# Altium footprint library shield_PcbLib.PcbLib: 25 footprints (part 1 of 2)
Each footprint in its own frame and in the unit in brackets; x right, y up, seen from the top. Pads: shape width x height; smd on the part's side, far side on the other; paste and mask are expansions set on the pad; w line width, h text height; cw(c..) or ccw(c..) is an arc to the next point about the centre after c.
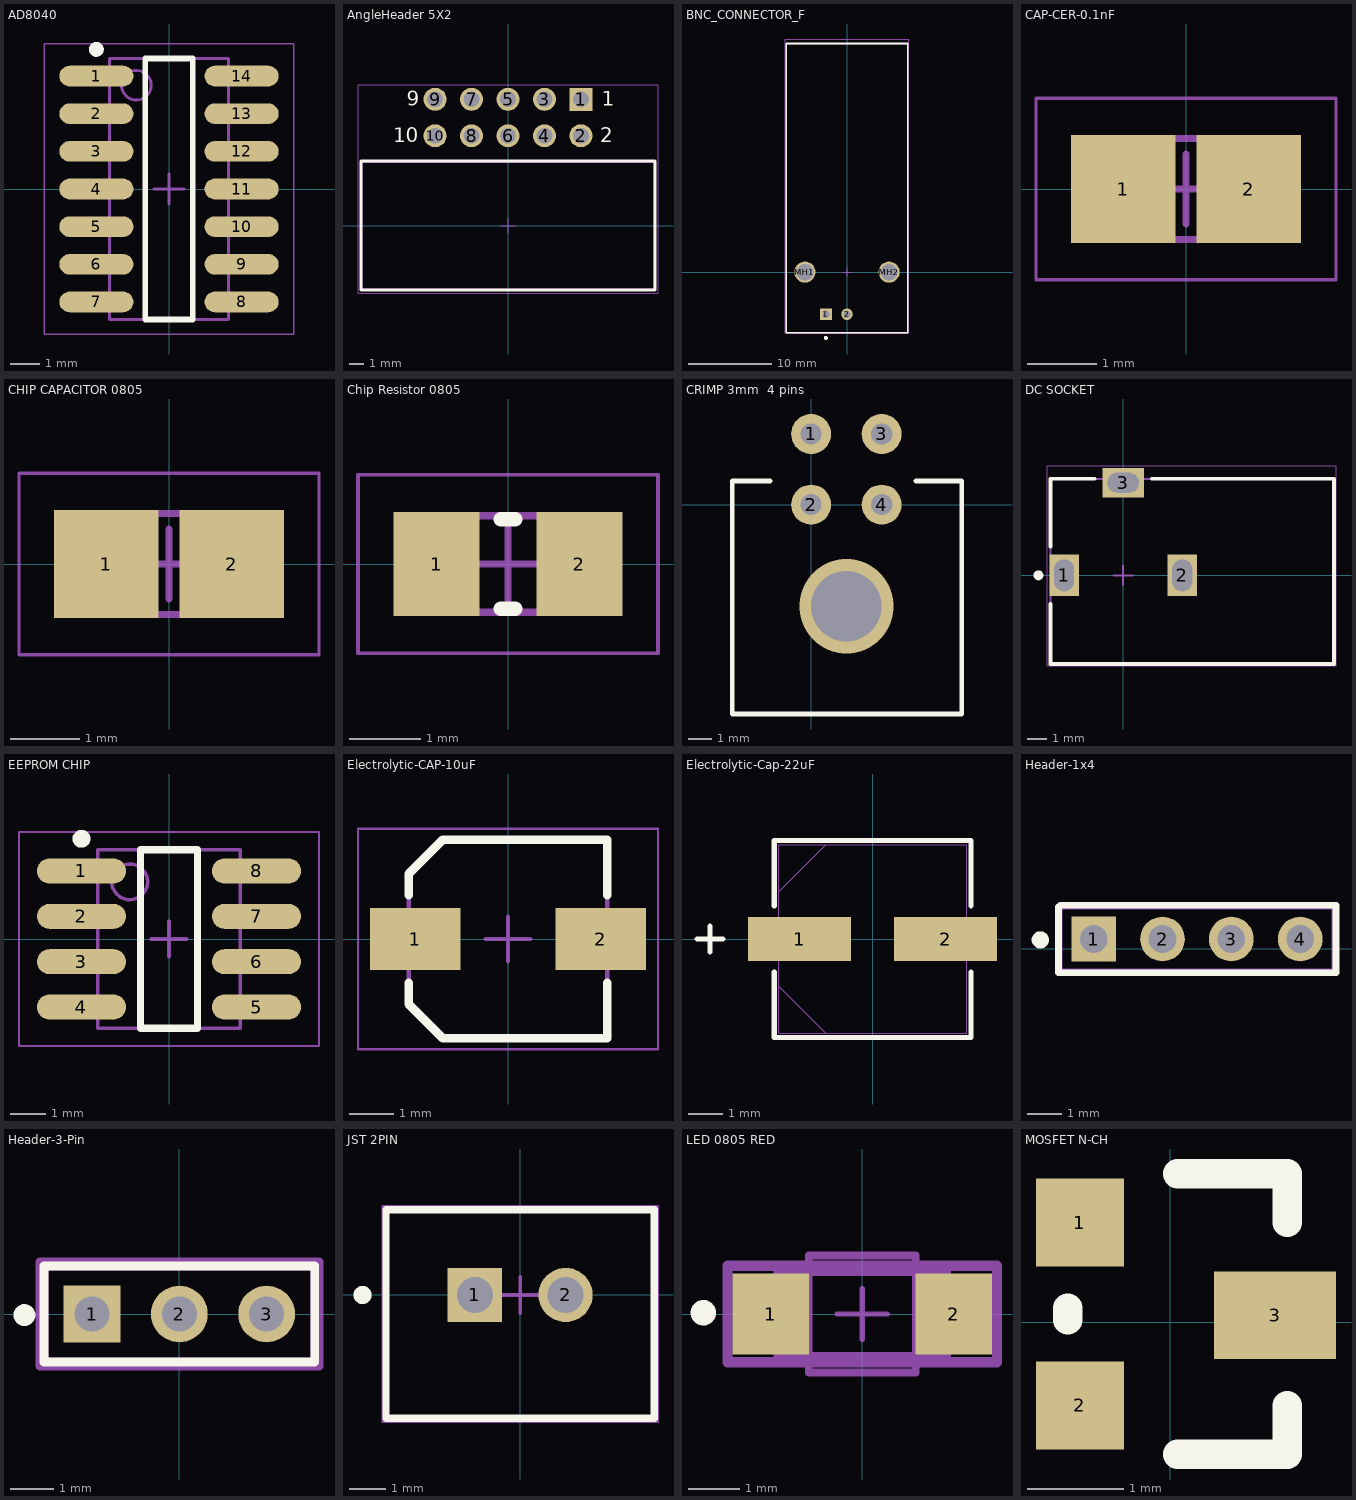
[diagram p0: the footprints below, top view; thin cyan lines are the x and y axes]

## AD8040 [mm] "SOIC, 14-Leads, Body 8.65x3.9mm, Pitch 1.27mm, IPC Low Density"
height 1.75
pads (14):
  oval 2.5x0.7 smd: 1(-2.45,3.81) 2(-2.45,2.54) 3(-2.45,1.27) 4(-2.45,0) 5(-2.45,-1.27) 6(-2.45,-2.54) 7(-2.45,-3.81) 8(2.45,-3.81) 9(2.45,-2.54) 10(2.45,-1.27) 11(2.45,0) 12(2.45,1.27) 13(2.45,2.54) 14(2.45,3.81)
Top Overlay:
  circle w0.25: c-2.45,4.71 r0.125
  lines w0.2: -0.8,-4.4 0.8,-4.4 0.8,4.4 -0.8,4.4 -0.8,-4.4
Mechanical 1:
  text "'.Designator'" at 0.254,0.421 h0.5
Mechanical 13:
  circle w0.1: c-1.1,3.5 r0.5
  lines w0.1: -2,-4.4 2,-4.4 2,4.4 -2,4.4 -2,-4.4
Mechanical 15:
  lines w0.05: -4.2,-4.9 4.2,-4.9 4.2,4.9 -4.2,4.9 -4.2,-4.9
  lines w0.1: -0.5,0 0.5,0 ; 0,-0.5 0,0.5
3D body: height 1.75, standoff 0.1, extent -2,-4.4 2,4.4

## AngleHeader 5X2 [mm] "10 pins, right angled, gold plating"
height 9.1
pads (10):
  rect 1.6x1.6 hole 1.1: 1(5.08,8.805)
  round 1.6 hole 1.1: 2(5.08,6.265) 3(2.54,8.805) 4(2.54,6.265) 5(0,8.805) 6(0,6.265) 7(-2.54,8.805) 8(-2.54,6.265) 9(-5.08,8.805) 10(-5.08,6.265)
Top Overlay:
  lines w0.2: -10.255,-4.5 -10.255,4.5 10.255,4.5 10.255,-4.5 -10.255,-4.5
  text "9" at -7.04,8.34 h1.02
  text "10" at -8,5.8 h1.02
  text "2" at 6.44,5.8 h1.02
  text "1" at 6.54,8.34 h1.02
Mechanical 13:
  lines w0.1: -10.18,-4.425 -10.18,4.425 10.18,4.425 10.18,-4.425 -10.18,-4.425
Mechanical 15:
  lines w0.05: -0.5,0 0.5,0 ; 0,-0.5 0,0.5 ; -10.455,-4.7 10.455,-4.7 10.455,9.805 -10.455,9.805 -10.455,-4.7
3D body "61201021721.stp": height 9.23, standoff -2.88, extent -10.18,-4.425 10.18,9.125

## BNC_CONNECTOR_F [mm] "SMD, 2-Leads, Body 34.9x14.7mm, Pitch 2.54mm"
height 15.8
pads (4):
  rect 1.4x1.4 hole 0.89: 1(-2.54,-5.08)
  round 1.4 hole 0.89: 2(0,-5.08)
  round 2.55 hole 2.01: MH1(-5.08,0) MH2(5.08,0)
Top Overlay:
  circle w0.25: c-2.54,-7.95 r0.125
  lines w0.2: -7.35,-7.3 -7.35,27.6 7.35,27.6 7.35,-7.3 -7.35,-7.3
Mechanical 13:
  lines w0.1: -7.35,-7.3 7.35,-7.3 7.35,27.6 -7.35,27.6 -7.35,-7.3
Mechanical 15:
  lines w0.05: -7.45,-7.4 7.45,-7.4 7.45,28.15 -7.45,28.15 -7.45,-7.4
  lines w0.1: -0.5,0 0.5,0 ; 0,-0.5 0,0.5
3D body "c-1-1337543-0-e-3d.stp": height 15.8, standoff -4.3, extent -7.35,-7.1 7.35,28.05

## CAP-CER-0.1nF [mm] "Chip Capacitor, 2-Leads, Body 2.00x1.25mm, IPC Low Density"
height 1.4
pads (2):
  rect 1.5x1.55 smd: 1(-0.9,0) 2(0.9,0)
Mechanical 5:
  text "'.Designator'" at 0.1,0.267 h0.5
Mechanical 13:
  lines w0.1: -1.1,-0.725 -1.1,0.725 1.1,0.725 1.1,-0.725 -1.1,-0.725
Mechanical 15:
  lines w0.05: -2.15,-1.3 -2.15,1.3 2.15,1.3 2.15,-1.3 -2.15,-1.3
  lines w0.1: -0.5,0 0.5,0 ; 0,-0.5 0,0.5
3D body: height 1.4, standoff 0, extent -0.6,-0.725 0.6,0.725
3D body: height 1.4, standoff 0, extent -1.1,-0.725 -0.6,0.725
3D body: height 1.4, standoff 0, extent 0.6,-0.725 1.1,0.725

## CHIP CAPACITOR 0805 [mm] "Chip Capacitor, 2-Leads, Body 2.00x1.25mm, IPC Low Density"
height 0.88
pads (2):
  rect 1.5x1.55 smd: 1(-0.9,0) 2(0.9,0)
Mechanical 5:
  text "'.Designator'" at 0.1,0.267 h0.5
Mechanical 13:
  lines w0.1: -1.1,-0.725 1.1,-0.725 1.1,0.725 -1.1,0.725 -1.1,-0.725
Mechanical 15:
  lines w0.05: -2.15,-1.3 2.15,-1.3 2.15,1.3 -2.15,1.3 -2.15,-1.3
  lines w0.1: -0.5,0 0.5,0 ; 0,-0.5 0,0.5
3D body: height 0.88, standoff 0, extent 0.6,-0.725 1.1,0.725
3D body: height 0.88, standoff 0, extent -1.1,-0.725 -0.6,0.725
3D body: height 0.88, standoff 0, extent -0.6,-0.725 0.6,0.725

## Chip Resistor 0805 [mm] "Chip Resistor, 2-Leads, Body 2.1x1.35mm, IPC Low Density"
height 0.6
pads (2):
  rect 1.2x1.45 smd: 1(-1,0) 2(1,0)
Top Overlay:
  lines w0.2: -0.1,-0.625 0.1,-0.625 ; -0.1,0.625 0.1,0.625
Mechanical 1:
  text "'.Designator'" at 0.1,0.267 h0.5
Mechanical 13:
  lines w0.1: -1.05,-0.675 -1.05,0.675 1.05,0.675 1.05,-0.675 -1.05,-0.675
Mechanical 15:
  lines w0.05: -2.1,-1.25 -2.1,1.25 2.1,1.25 2.1,-1.25 -2.1,-1.25
  lines w0.1: -0.5,0 0.5,0 ; 0,-0.5 0,0.5
3D body "RESC2012X06N.step": height 0.6, standoff 0, extent -1.05,-0.675 1.05,0.675

## CRIMP 3mm  4 pins [mm]
pads (4):
  round 1.7 hole 0.9: 1(0,3) 2(0,0) 3(3,3) 4(3,0)
via 1.5,-4.32 diameter 4 hole 3
Top Overlay:
  lines w0.2: -1.75,1 -3.35,1 -3.35,-8.9 4.5,-8.9 6.4,-8.9 6.4,1 4.45,1

## DC SOCKET [mm] "THD, 3-Leads, Body 14.4x9mm, Height 11mm"
height 11
pads (3):
  rect 1.5x2.1 hole 1 slot 1.6 at 90 deg: 1(-3,0) 2(3,0)
  rect 2.1x1.5 hole 1 slot 1.6 at 0 deg: 3(0,4.7)
Top Overlay:
  circle w0.25: c-4.3,0 r0.125
  lines w0.2: -3.7,-1.45 -3.7,-4.5 10.7,-4.5 10.7,4.9 1.45,4.9 ; -3.7,1.45 -3.7,4.9 -1.45,4.9
Mechanical 13:
  lines w0.1: -3.7,-4.5 -3.7,4.9 10.7,4.9 10.7,-4.5 -3.7,-4.5
Mechanical 15:
  lines w0.05: -3.85,-4.6 -3.85,5.55 10.8,5.55 10.8,-4.6 -3.85,-4.6
  lines w0.1: -0.5,0 0.5,0 ; 0,-0.5 0,0.5
3D body "pj-102b.stp": height 11, standoff -3.5, extent -3.7,-4.5 10.7,4.9

## EEPROM CHIP [mm] "SOIC, 8-Leads, Body 4.9x3.9mm, Pitch 1.27mm, IPC Low Density"
height 1.75
pads (8):
  oval 2.5x0.7 smd: 1(-2.45,1.905) 2(-2.45,0.635) 3(-2.45,-0.635) 4(-2.45,-1.905) 5(2.45,-1.905) 6(2.45,-0.635) 7(2.45,0.635) 8(2.45,1.905)
Top Overlay:
  circle w0.25: c-2.45,2.805 r0.125
  lines w0.2: -0.8,-2.5 0.8,-2.5 0.8,2.5 -0.8,2.5 -0.8,-2.5
Mechanical 1:
  text "'.Designator'" at 0.1,0.267 h0.5
Mechanical 13:
  circle w0.1: c-1.1,1.6 r0.5
  lines w0.1: -2,-2.5 2,-2.5 2,2.5 -2,2.5 -2,-2.5
Mechanical 15:
  lines w0.05: -4.2,-3 4.2,-3 4.2,3 -4.2,3 -4.2,-3
  lines w0.1: -0.5,0 0.5,0 ; 0,-0.5 0,0.5
3D body: height 1.75, standoff 0.1, extent -2,-2.5 2,2.5

## Electrolytic-CAP-10uF [mm] "Aluminum Electrolytic Capacitor, 2-Leads, Body 4.5x4.5mm, IPC High Density"
height 5.5
pads (2):
  rect 2.05x1.4 smd: 1(-2.1,0) 2(2.1,0)
Top Overlay:
  lines w0.2: -2.25,-1 -2.25,-1.475 -1.475,-2.25 2.25,-2.25 2.25,-1 ; -2.25,1 -2.25,1.475 -1.475,2.25 2.25,2.25 2.25,1
Mechanical 1:
  text "'.Designator'" at 0.1,0.267 h0.5
Mechanical 13:
  lines w0.1: -2.25,-1.475 -2.25,1.475 -1.475,2.25 2.25,2.25 2.25,-2.25 -1.475,-2.25 -2.25,-1.475
Mechanical 15:
  lines w0.05: -3.4,-2.5 3.4,-2.5 3.4,2.5 -3.4,2.5 -3.4,-2.5
  lines w0.1: -0.5,0 0.5,0 ; 0,-0.5 0,0.5
3D body "CAPAE5543X55L.step": height 5.5, standoff 0, extent -2.75,-2.25 2.75,2.25

## Electrolytic-Cap-22uF [mm]
pads (2):
  rect 3.011x1.287 smd paste+0 mask+0: 1(-2.141,0) 2(2.141,0)
Top Overlay:
  lines w0.152: -5.145,0 -4.383,0 ; -4.764,-0.381 -4.764,0.381 ; -2.883,-0.976 -2.883,-2.883 2.883,-2.883 2.883,-0.976 ; -2.883,0.976 -2.883,2.883 2.883,2.883 2.883,0.976
Mechanical 1:
  text "'.Designator'" at 0.1,0.267 h0.5
Mechanical 13:
  lines w0.025: -5.145,0 -4.383,0 ; -4.764,-0.381 -4.764,0.381 ; -2.756,-1.378 -1.378,-2.756 ; -2.756,1.378 -1.378,2.756 ; -2.756,-2.756 2.756,-2.756 2.756,2.756 -2.756,2.756 -2.756,-2.756
3D body "PCAP_5x54-ELECT_NCA.step": height 5.57, standoff 0, extent -2.966,-2.756 2.926,2.756
3D body: height 0.25, standoff 0, extent 0,0 0.254,0.254

## Header-1x4 [mm]
pads (4):
  rect 1.3x1.3 hole 0.8 paste-1000 mask+0: 1(6.51,0.29)
  round 1.3 hole 0.8 paste-1000 mask+0: 2(8.51,0.29) 3(10.51,0.29) 4(12.51,0.29)
Top Overlay:
  circle w0.25: c4.96,0.265 r0.125
  circle w0.25: c4.96,0.265 r0.125
  lines w0.2: 5.49,-0.69 13.55,-0.69 ; 5.49,-0.69 13.55,-0.69 ; 5.49,-0.69 5.49,1.22 ; 5.49,-0.69 5.49,1.22 ; 5.49,1.22 5.54,1.27 ; 5.49,1.22 5.54,1.27 ; 5.54,1.27 13.55,1.27 ; 5.54,1.27 13.55,1.27 ; 13.55,-0.69 13.55,1.27 ; 13.55,-0.69 13.55,1.27
Mechanical 5:
  lines w0.2: 5.505,1.235 5.505,-0.665 13.515,-0.665 13.515,1.245 5.515,1.245
  text ".Designator" at 8.51,0.289 h1

## Header-3-Pin [mm]
pads (3):
  rect 1.3x1.3 hole 0.8 paste-1000 mask+0: 1(-2,0)
  round 1.3 hole 0.8 paste-1000 mask+0: 2(0,0) 3(2,0)
Top Overlay:
  circle w0.25: c-3.55,-0.025 r0.125
  lines w0.2: -3.1,-1.1 -3.1,1.1 3.1,1.1 3.1,-1.1 -3.1,-1.1
Mechanical 5:
  lines w0.2: -3.2,-1.2 -3.2,1.2 3.2,1.2 3.2,-1.2 -3.2,-1.2
  text ".Designator" at 0,-0.001 h1
Mechanical 13:
  lines w0.2: -3.1,-1.1 -3.1,1.1 3.1,1.1 3.1,-1.1 -3.1,-1.1
Mechanical 15:
  lines w0.2: -3.2,-1.2 -3.2,1.2 3.2,1.2 3.2,-1.2 -3.2,-1.2
Mechanical 16:
  lines w0.1: -0.5,0 0.5,0 ; 0,-0.5 0,0.5
3D body "Conn_3M_951103-8622-AR_eec.STEP": height 0.25, standoff 0, extent -3.2,-1.2 3.2,1.2

## JST 2PIN [mm] "Header, 2-Leads, Body 7.4x5.75mm, Pitch 2.5mm"
height 7
pads (2):
  rect 1.5x1.5 hole 1: 1(-1.25,0)
  round 1.5 hole 1: 2(1.25,0)
Top Overlay:
  circle w0.25: c-4.35,0 r0.125
  lines w0.2: -3.7,-3.4 -3.7,2.35 3.7,2.35 3.7,-3.4 -3.7,-3.4
Mechanical 13:
  lines w0.1: -3.7,-3.4 3.7,-3.4 3.7,2.35 -3.7,2.35 -3.7,-3.4
Mechanical 15:
  lines w0.05: -3.8,-3.5 -3.8,2.45 3.8,2.45 3.8,-3.5 -3.8,-3.5
  lines w0.1: -0.5,0 0.5,0 ; 0,-0.5 0,0.5
3D body "B2B-XH-A.STEP": height 7, standoff -3.4, extent -3.7,-3.4 3.7,2.35

## LED 0805 RED [mm]
pads (2):
  rect 1.5x1.6 smd paste+0 mask+0: 1(-1.8,0) 2(1.8,0)
Top Overlay:
  circle w0.25: c-3.125,0.025 r0.125
Mechanical 3:
  lines w0.15: -1.05,-1.15 -1.05,1.15 1.05,1.15 1.05,-1.15 -1.05,-1.15
Mechanical 5:
  lines w0.2: -2.65,-0.95 -2.65,0.95 2.65,0.95 2.65,-0.95 -2.65,-0.95
  text ".Designator" at 0,0.188 h1
Mechanical 13:
  lines w0.2: -1.65,-0.85 -1.65,0.85 1.65,0.85 1.65,-0.85 -1.65,-0.85
Mechanical 15:
  lines w0.2: -2.65,-0.95 -2.65,0.95 2.65,0.95 2.65,-0.95 -2.65,-0.95
Mechanical 16:
  lines w0.1: -0.5,0 0.5,0 ; 0,-0.5 0,0.5
3D body "Diode_Lite-On_Inc_LTST-C230EKT_eec.STEP": height 0.25, standoff 0, extent -2.65,-0.95 2.65,0.95

## MOSFET N-CH [mil]
pads (3):
  rect 36x36 smd: 1(-37.01,40.94) 2(-37.01,-34.06)
  rect 50x36 smd: 3(42.99,2.94)
Top Overlay:
  lines w12: -42.01,0.94 -42.01,5.94 ; 2.99,-54.06 47.99,-54.06 47.99,-34.06 ; 2.99,60.94 47.99,60.94 47.99,40.94
Mechanical 1:
  text "'.Designator'" at 3.94,10.5 h19.68
3D body "Trans_Alpha_&_Omega_Semiconductor_AO3400A_eec.STEP": height 10, standoff 0, extent -61.81,-67.99 72.05,71.93